# Altium schematic symbol library sch jasiel.SchLib: 32 symbols (part 2 of 2)
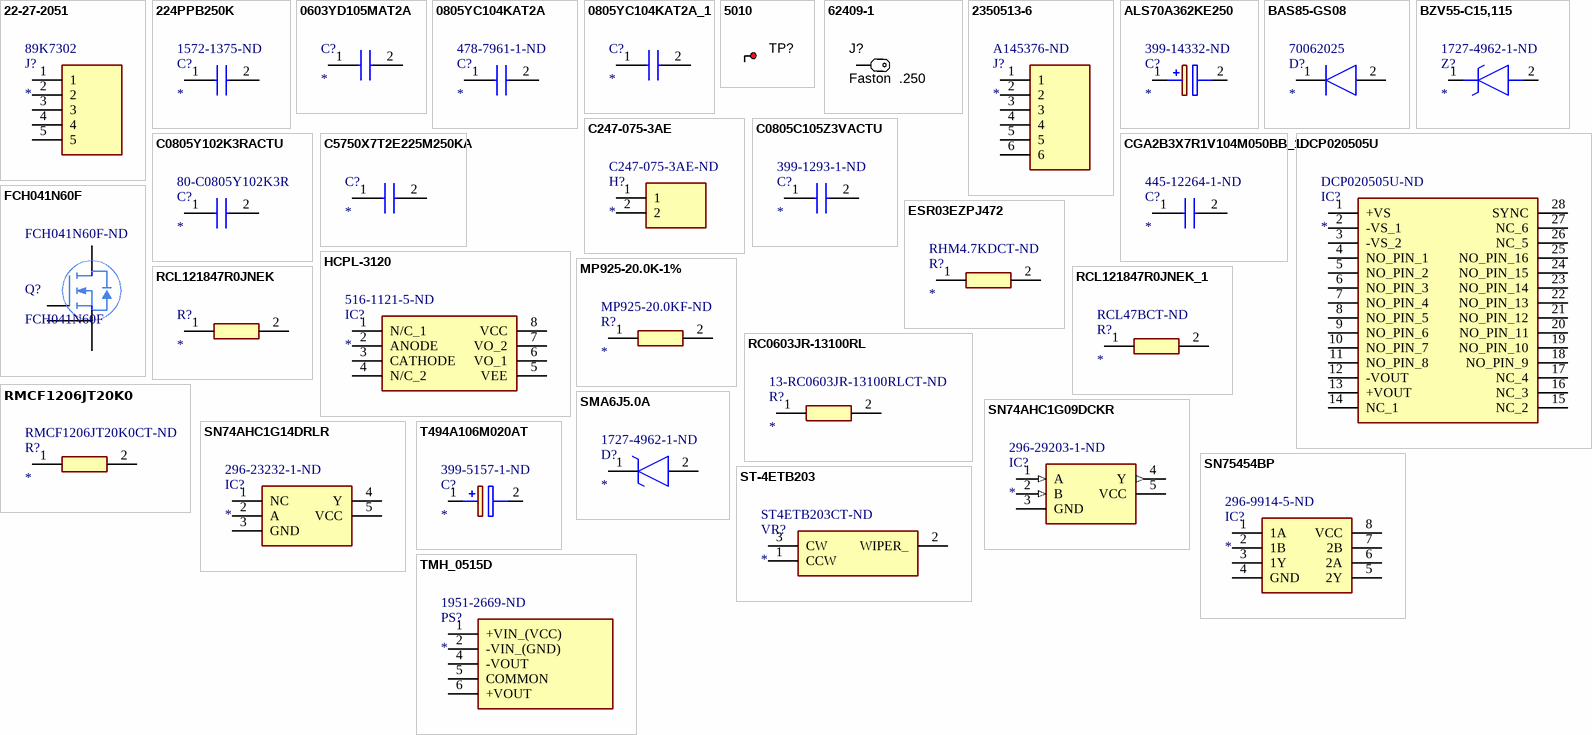
[diagram p1: symbols 22-27-2051 to TMH_0515D]

## T494A106M020AT
designator C?  Supplier Part Number 1: 399-5157-1-ND
Cap Tant Solid 10uF 20V A CASE 20% (3.2 X 1.6 X 1.6mm) SMD 3216-18 3 Ohm 125C T/R; Manufacturer_Name: Kemet; Manufacturer_Part_Number: T494A106M020AT; ESR (Equivalent Series Resistance): 3R; Ripple Current: 158mA; Leakage Current: 2uA; Polarity: Polar; Dissipation Factor: 10%; Life (Hours): 2000Hour; Datasheet Link: https://componentsearchengine.com/Datasheets/2/T494A106M020AT.pdf; Height: 1.8mm; Supplier 1: Digi-Key; Manufacturer: KEMET; Manufacturer Part Number: T494A106M020AT; RoHS: Yes; Category: Tantalum Capacitors; Stock 1: 10000; Pricing 1: 1=0.85000, 10=0.64900, 50=0.53900, 100=0.46420, 500=0.35936, 1000=0.30946 (USD); Mount: Surface Mount; Case/Package: 1206; Case Code (Imperial): 1206; Case Code (Metric): 3216; Min Operating Temperature: -55°C; Max Operating Temperature: 125°C; Packaging: Tape and Reel; Capacitance: 10uF; Tolerance: 20%; Voltage Rating (DC): 20V; Voltage Rating: 20V; Package Quantity: 1; Termination: SMD/SMT; Features: General Purpose; Series: T494; Construction: Flat; Length: 3.2mm; Width: 1.6mm; Height - Seated (Max): 0.071inch; Depth: 1.6mm; Radiation Hardening: No; REACH SVHC: No SVHC; RoHS Compliant: Yes; ComponentLink1URL: https://datasheet.ciiva.com/22691/1778347-22691442.pdf?src-supplier=Element14; ComponentLink1Description: https://datasheet.ciiva.com/22691/1778347-22691442.pdf?src-supplier=Element14; ComponentLink2URL: https://datasheet.ciiva.com/258/kem-t2008-t494-258774.pdf?src-supplier=Digi-Key; ComponentLink2Description: https://datasheet.ciiva.com/258/kem-t2008-t494-258774.pdf?src-supplier=Digi-Key; ComponentLink3URL: https://datasheet.ciiva.com/258/kem-t2008-t494-258775.pdf?src-supplier=Digi-Key; ComponentLink3Description: https://datasheet.ciiva.com/258/kem-t2008-t494-258775.pdf?src-supplier=Digi-Key; ComponentLink4URL: https://datasheet.ciiva.com/258/kem-t2008-t494-258776.pdf?src-supplier=Digi-Key; ComponentLink4Description: https://datasheet.ciiva.com/258/kem-t2008-t494-258776.pdf?src-supplier=Digi-Key
footprint CAPPM3216X180N - duplicate
pins: 1 +, 2 -

## TMH_0515D
designator PS?  Supplier Part Number 1: 1951-2669-ND
DC/DC CONVERTER; Manufacturer_Name: Traco Power; Manufacturer_Part_Number: TMH 0515D; Manufacturer Part Number: TMH0515D; Nominal Input Voltage: 5V; Output Voltage: 15V; Output Current: 65mA; Number of Outputs: 2; Efficiency: 79%; Output Power: 2W; Max Input Voltage: 5.5V; Min Input Voltage: 4.5V; Voltage - Output 2: -15V; Isolation Voltage: 1kV; Isolation: Isolated; Datasheet Link: https://componentsearchengine.com//TMH 0515D.pdf; Height: 10.45mm; Mouser2 Part Number: 495-TMH-0515D; Mouser2 Price/Stock: https://www.mouser.com/Search/Refine.aspx?Keyword=495-TMH-0515D; Supplier 1: Digi-Key; Manufacturer: Traco Power; RoHS: Yes; Category: Voltage Regulators - Switching; Stock 1: 615; Pricing 1: 1=7.20000, 10=6.97900, 25=6.77400, 50=6.56880, 100=6.36350, 250=6.15824, 500=5.74770 (USD); Mount: Through Hole; Case/Package: SIP; Number of Pins: 5; Weight: 2.7g; Min Operating Temperature: -40°C; Max Operating Temperature: 75°C; Max Output Current: 65mA; Min Input Voltage (DC): 4.5V; Max Input Voltage (DC): 5.5V; Max Output Power: 2W; Voltage - Output 1: 15V; Current - Output 1: 65mA; Current - Output 2: 65mA; Series: TMH; Length: 19.5mm; Width: 7.5mm; Depth: 7.5mm; Radiation Hardening: No; REACH SVHC: No SVHC; Flammability Rating: UL94 V-0; RoHS Compliant: Yes; ComponentLink1URL: https://datasheet.ciiva.com/26336/157182-da-01-en-dc-dc-wandler-tmh-0515d-26336256.pdf?src-supplier=Conrad; ComponentLink1Description: https://datasheet.ciiva.com/26336/157182-da-01-en-dc-dc-wandler-tmh-0515d-26336256.pdf?src-supplier=Conrad; ComponentLink2URL: https://datasheet.ciiva.com/46393/1648746-46393670.pdf?src-supplier=Element14; ComponentLink2Description: https://datasheet.ciiva.com/46393/1648746-46393670.pdf?src-supplier=Element14; ComponentLink3URL: https://datasheet.ciiva.com/3356/tmh-eng-tds-3356425.pdf?src-supplier=Distrelec; ComponentLink3Description: https://datasheet.ciiva.com/3356/tmh-eng-tds-3356425.pdf?src-supplier=Distrelec
footprint TMH0515D
pins: 1 +VIN_(VCC), 2 -VIN_(GND), 4 -VOUT, 5 COMMON, 6 +VOUT